# EAGLE library part USB_AF-006 (library Domino)
USB-A Right/Angle SMT Connector
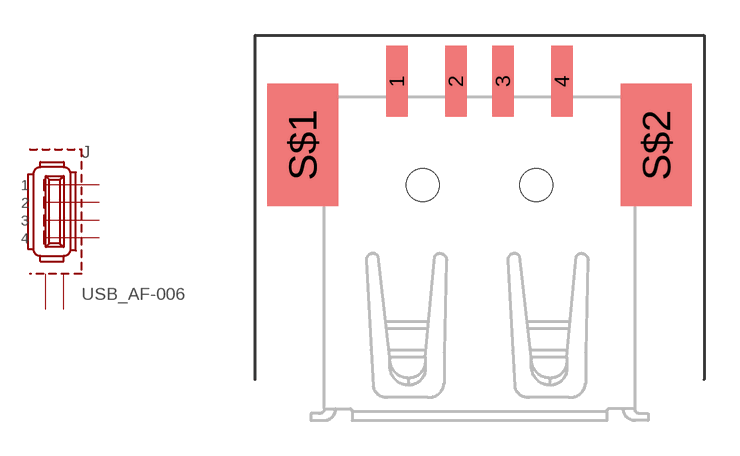
[diagram p33: symbol with the pads of USB_AF-006; footprint USB_AF-006]

Designator prefix J

## USB_AF-006  [USB_AF-006]
1  1  pas
2  2  pas
3  3  pas
4  4  pas
S$1  G  pas
S$2  G  pas

## Footprint USB_AF-006 (pad centres in mm)
USB-A Right/Angle SMT Connector
smd 0.9 x 3: 1 -3.5,4.4; 2 -1,4.4; 3 1,4.4; 4 3.5,4.4
smd 3 x 5.2: S$1 -7.5,1.7; S$2 7.5,1.7
hole 1.4 at -2.4,0
hole 1.4 at 2.4,0